# Altium schematic symbol library SamacSys.SchLib: 1281 symbols (part 2 of 13)

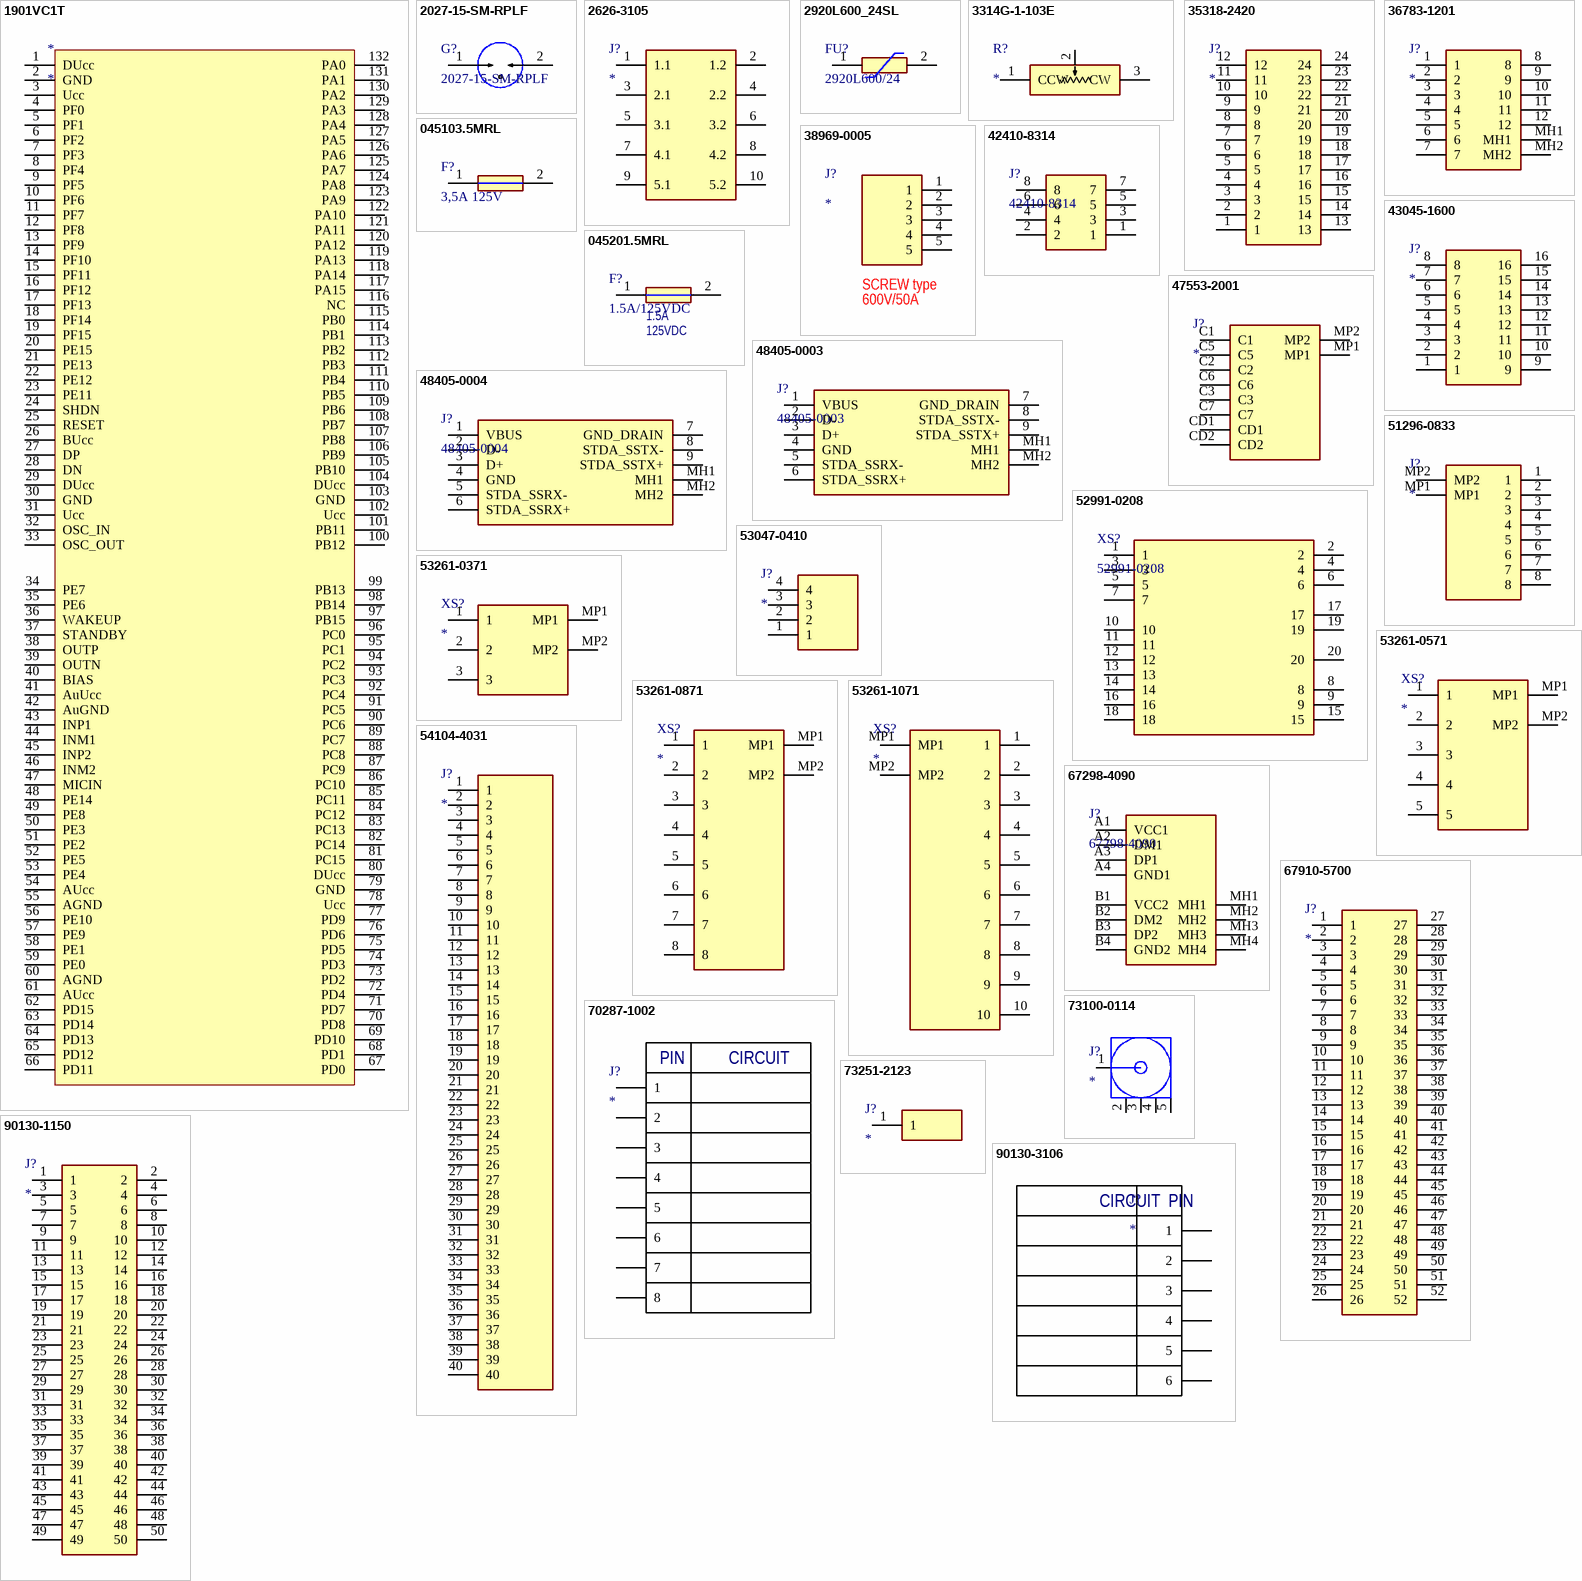
[diagram p4: symbols 1901VC1T to 90130-3106]

## 1901VC1T
designator *
footprint CQFP62P3375X3375X350-132M (CQFP, 132-Leads, Body 33,75x33,75mm, Pitch 0,63mm, IPC Low Density)
pins: 1 DUcc, 2 GND, 3 Ucc, 4 PF0, 5 PF1, 6 PF2, 7 PF3, 8 PF4, 9 PF5, 10 PF6, 11 PF7, 12 PF8, 13 PF9, 14 PF10, 15 PF11, 16 PF12, 17 PF13, 18 PF14, 19 PF15, 20 PE15, 21 PE13, 22 PE12, 23 PE11, 24 SHDN, 25 RESET, 26 BUcc, 27 DP, 28 DN, 29 DUcc, 30 GND, 31 Ucc, 32 OSC_IN, 33 OSC_OUT, 34 PE7, 35 PE6, 36 WAKEUP, 37 STANDBY, 38 OUTP, 39 OUTN, 40 BIAS, 41 AuUcc, 42 AuGND, 43 INP1, 44 INM1, 45 INP2, 46 INM2, 47 MICIN, 48 PE14, 49 PE8, 50 PE3, 51 PE2, 52 PE5, 53 PE4, 54 AUcc, 55 AGND, 56 PE10, 57 PE9, 58 PE1, 59 PE0, 60 AGND, 61 AUcc, 62 PD15, 63 PD14, 64 PD13, 65 PD12, 66 PD11, 67 PD0, 68 PD1, 69 PD10, 70 PD8, 71 PD7, 72 PD4, 73 PD2, 74 PD3, 75 PD5, 76 PD6, 77 PD9, 78 Ucc, 79 GND, 80 DUcc, 81 PC15, 82 PC14, 83 PC13, 84 PC12, 85 PC11, 86 PC10, 87 PC9, 88 PC8, 89 PC7, 90 PC6, 91 PC5, 92 PC4, 93 PC3, 94 PC2, 95 PC1, 96 PC0, 97 PB15, 98 PB14, 99 PB13, 100 PB12, 101 PB11, 102 Ucc, 103 GND, 104 DUcc, 105 PB10, 106 PB9, 107 PB8, 108 PB7, 109 PB6, 110 PB5, 111 PB4, 112 PB3, 113 PB2, 114 PB1, 115 PB0, 116 NC, 117 PA15, 118 PA14, 119 PA13, 120 PA12, 121 PA11, 122 PA10, 123 PA9, 124 PA8, 125 PA7, 126 PA6, 127 PA5, 128 PA4, 129 PA3, 130 PA2, 131 PA1, 132 PA0

## 2027-15-SM-RPLF
designator G?
GDT 150V 10KA 2 POLE SMD; Manufacturer_Name: Bourns; Manufacturer_Part_Number: 2003-07-SM-RPLF; Datasheet Link: https://www.arrow.com/en/products/2003-07-sm-rplf/bourns; Height: 3.7mm; Mouser Part Number: 652-2003-07-SM-RPLF; Mouser Price/Stock: https://www.mouser.co.uk/ProductDetail/Bourns/2003-07-SM-RPLF?qs=j%252B1pi9TdxUaYVLyv%2F6mAaA%3D%3D; Arrow Part Number: 2003-07-SM-RPLF; Arrow Price/Stock: https://www.arrow.com/en/products/2003-07-sm-rplf/bourns?region=nac
footprint 202707SMRPLF
pins: 1, 2

## 2626-3105
designator J?
PCB TERMINAL BLOCK 6 MM PIN SPAC; Manufacturer_Name: Wago; Manufacturer_Part_Number: 2626-3105; Datasheet Link: https://www.wago.com/2626-3105; Height: 24.2mm
footprint 26263105
pins: 1 1.1, 2 1.2, 3 2.1, 4 2.2, 5 3.1, 6 3.2, 7 4.1, 8 4.2, 9 5.1, 10 5.2

## 2920L600_24SL
designator FU?, comment 2920L600/24
PTC RESET FUSE 6.0A 24V 2920; Manufacturer_Name: LITTELFUSE; Manufacturer_Part_Number: 2920L600/24SL; Datasheet Link: https://www.mouser.fr/datasheet/2/240/littelfuse_ptc_low_rho_datasheet_pdf-1901322.pdf; Height: 1.2mm
footprint 2920L700SLPR (Footprint not found)
pins: 1, 2

## 3314G-1-103E
designator R?
TRIMMER 10K OHM 0.25W GW TOP ADJ; Manufacturer_Name: Bourns; Manufacturer_Part_Number: 3314G-1-103E; Datasheet Link: https://componentsearchengine.com/Datasheets/2/3314G-1-103E.pdf; Mouser Part Number: 652-3314G-1-103E; Mouser Price/Stock: https://www.mouser.co.uk/ProductDetail/Bourns/3314G-1-103E?qs=5DXzRwmrLHHE6mxfh4g4uw%3D%3D; Arrow Part Number: 3314G-1-103E; Arrow Price/Stock: https://www.arrow.com/en/products/3314g-1-103e/bourns?region=europe
footprint 3314G-1-102E
pins: 1 CCW, 2 WIPER, 3 CW

## 35318-2420
designator J?
CONN HEADER R/A 24POS 4.2MM; Manufacturer_Name: Molex; Manufacturer_Part_Number: 35318-2420; Datasheet Link: https://www.molex.com/pdm_docs/sd/353180420_sd.pdf; Height: 11mm; Mouser Part Number: 538-35318-2420; Mouser Price/Stock: https://www.mouser.co.uk/ProductDetail/Molex/35318-2420?qs=yk4OKw9K9iKh2zcL8vnGBQ%3D%3D
footprint 35318-24Y0_12
pins: 1, 2, 3, 4, 5, 6, 7, 8, 9, 10, 11, 12, 13, 14, 15, 16, 17, 18, 19, 20, 21, 22, 23, 24

## 36783-1201
designator J?
CONN HEADER R/A 12POS 3.2MM; Manufacturer_Name: Molex; Manufacturer_Part_Number: 36783-1201; Datasheet Link: https://www.molex.com/webdocs/datasheets/pdf/en-us/0367831201_PCB_HEADERS.pdf; Height: 26mm; Mouser Part Number: 538-36783-1201; Mouser Price/Stock: https://www.mouser.co.uk/ProductDetail/Molex/36783-1201?qs=OCbSoOldw5tiOFZFkbZSWg%3D%3D
footprint 367831201
pins: 1, 2, 3, 4, 5, 6, 7, 8, 9, 10, 11, 12, MH1, MH2

## 38969-0005
designator J?
CONN BARRIER STRIP 5CIRC 0.5"; Manufacturer_Name: Molex; Manufacturer_Part_Number: 38969-0005; Datasheet Link: https://www.molex.com/molex/products/part-detail/terminal_blocks/0389690005; Height: 22.6mm; Mouser Part Number: 538-38969-0005; Mouser Price/Stock: https://www.mouser.co.uk/ProductDetail/Molex/38969-0005?qs=PQuVvXbTLK53BA2hCkrDPQ%3D%3D
footprint 389690005
pins: 1, 2, 3, 4, 5
text: SCREW type; 600V/50A

## 42410-8314
designator J?
CONN MOD JACK 8P8C VERT UNSHLD; Manufacturer_Name: Molex; Datasheet Link: https://componentsearchengine.com/Datasheets/5/42410-8314.pdf; Height: 16.63mm; Manufacturer_Part_Number: 42410-8314; Mouser Part Number: 538-42410-8314; Mouser Price/Stock: https://www.mouser.co.uk/ProductDetail/Molex/42410-8314?qs=N%252Bmdi5el9QK7xOzFDC%252BCjg%3D%3D
footprint 424108314
pins: 1, 2, 3, 4, 5, 6, 7, 8

## 43045-1600
designator J?
CONN HEADER R/A 16POS 3MM; Manufacturer_Name: Molex; Manufacturer_Part_Number: 43045-1600; Datasheet Link: https://www.molex.com/pdm_docs/sd/430450200_sd.pdf; Height: 8.77mm; Mouser Part Number: 538-43045-1600; Mouser Price/Stock: https://www.mouser.co.uk/ProductDetail/Molex/43045-1600?qs=SeTnVz%252B%252BFGBdrqGVXFHXvQ%3D%3D
footprint 43045-16(00,01,02,10)
pins: 1, 2, 3, 4, 5, 6, 7, 8, 9, 10, 11, 12, 13, 14, 15, 16

## 045103.5MRL
designator F?, comment 3,5А 125V
FUSE BRD MNT 3.5A 125VAC/VDC SMD; Manufacturer_Name: LITTELFUSE; Manufacturer_Part_Number: 0451020.MRL; Datasheet Link: https://m.littelfuse.com/~/media/electronics/datasheets/fuses/littelfuse_fuse_451_453_datasheet.pdf.pdf; Height: 2.94mm; Mouser Part Number: 576-0451020.MRL; Mouser Price/Stock: https://www.mouser.co.uk/ProductDetail/Littelfuse/0451020.MRL?qs=ZaMXuU%252B6JZZbQqgd%2F3uvYw%3D%3D; Arrow Part Number: 0451020.MRL; Arrow Price/Stock: https://www.arrow.com/en/products/0451020.mrl/littelfuse?region=nac
footprint FUSC6127X294N
pins: 1, 2

## 045201.5MRL
designator F?, comment 1.5A/125VDC  Rated Current: 1.5А  Voltage: 125VDC
FUSE BRD MNT 1.5A 125VAC/VDC SMD; Manufacturer_Name: LITTELFUSE; Manufacturer_Part_Number: 045201.5MRL; Datasheet Link: https://componentsearchengine.com/Datasheets/2/045201.5MRL.pdf; Height: 2.69mm; Mouser Part Number: 576-045201.5MRL; Mouser Price/Stock: https://www.mouser.co.uk/ProductDetail/Littelfuse/045201.5MRL?qs=WtG364jHAdxFkoGkhC9sHA%3D%3D; Arrow Part Number: 045201.5MRL; Arrow Price/Stock: https://www.arrow.com/en/products/045201.5mrl/littelfuse?region=nac
footprint FUSC6127X269N
pins: 1, 2

## 47553-2001
designator J?
CONN SIM CARD R/A SMD; Manufacturer_Name: Molex; Manufacturer_Part_Number: 47553-2001; Datasheet Link: https://www.molex.com/pdm_docs/sd/475532001_sd.pdf; Height: 1.95mm; Mouser Part Number: 538-47553-2001; Mouser Price/Stock: https://www.mouser.co.uk/ProductDetail/Molex/47553-2001?qs=1uvhzzitxfi2svNKAQbATg%3D%3D; Arrow Part Number: 47553-2001; Arrow Price/Stock: https://www.arrow.com/en/products/47553-2001/molex?region=nac
footprint 475532001
pins: C1, C2, C3, C5, C6, C7, CD1, CD2, MP1, MP2

## 48405-0003
designator J?
CONN RCPT USB3.0 TYPEA 9POS R/A; Manufacturer_Name: Molex; Manufacturer_Part_Number: 0484050003; Datasheet Link: https://www.molex.com/pdm_docs/sd/484050003_sd.pdf; Height: 7.2mm; Mouser Part Number: N/A; Mouser Price/Stock: https://www.mouser.co.uk/ProductDetail/Molex/0484050003?qs=PBcRNPEHKsrJIFSus3iemQ%3D%3D; Arrow Part Number: 0484050003; Arrow Price/Stock: https://www.arrow.com/en/products/0484050003/molex?region=nac
footprint 0484050003
pins: 1 VBUS, 2 D-, 3 D+, 4 GND, 5 STDA_SSRX-, 6 STDA_SSRX+, 7 GND_DRAIN, 8 STDA_SSTX-, 9 STDA_SSTX+, MH1, MH2

## 48405-0004
designator J?
CONN RCPT USB3.0 TYPEA 9POS R/A; Manufacturer_Name: Molex; Datasheet Link: https://www.molex.com/pdm_docs/sd/484050004_sd.pdf; Height: 7.2mm; Manufacturer_Part_Number: 48405-0004; Mouser Part Number: 538-48405-0004; Mouser Price/Stock: https://www.mouser.co.uk/ProductDetail/Molex/48405-0004?qs=KpdAywxU013tn9yU6Oexaw%3D%3D
footprint 484050004
pins: 1 VBUS, 2 D-, 3 D+, 4 GND, 5 STDA_SSRX-, 6 STDA_SSRX+, 7 GND_DRAIN, 8 STDA_SSTX-, 9 STDA_SSTX+, MH1, MH2

## 51296-0833
designator J?
CONN FFC BOTTOM 8POS 0.5MM R/A; Manufacturer_Name: Molex; Manufacturer_Part_Number: 51296-0833; Datasheet Link: https://www.molex.com/pdm_docs/sd/512960833_sd.pdf; Height: 1.5mm; Mouser Part Number: 538-51296-0833; Mouser Price/Stock: https://www.mouser.co.uk/ProductDetail/Molex/51296-0833?qs=WUH%2FFLtHMl3%252BMyIyLnVEoQ%3D%3D
footprint 512960833
pins: 1, 2, 3, 4, 5, 6, 7, 8, MP1, MP2

## 52991-0208
designator XS?
CONN RCPT 20POS SMD GOLD; Manufacturer_Name: Molex; Datasheet Link: http://www.molex.com/webdocs/datasheets/pdf/en-us//0529910208_PCB_RECEPTACLES.pdf; Height: 2.47mm; Manufacturer_Part_Number: 52991-0208; Mouser Part Number: 538-52991-0208; Mouser Price/Stock: https://www.mouser.co.uk/ProductDetail/Molex/52991-0208?qs=KC2ywxza1krtfqlg7H04kw%3D%3D
footprint 529910208
pins: 1, 2, 3, 4, 5, 6, 7, 8, 9, 10, 11, 12, 13, 14, 15, 16, 17, 18, 19, 20

## 53047-0410
designator J?
Connector; Manufacturer_Name: Molex; Manufacturer_Part_Number: 53047-0410; Datasheet Link: https://www.molex.com/pdm_docs/sd/530470410_sd.pdf; Height: 4.4mm; Mouser Part Number: 538-53047-0410; Mouser Price/Stock: https://www.mouser.co.uk/ProductDetail/Molex/53047-0410?qs=DcEdecHHM4i8IPBxVAuJtg%3D%3D
footprint 530470410
pins: 1, 2, 3, 4

## 53261-0371
designator XS?
CONN HEADER SMD R/A 3POS 1.25MM; Manufacturer_Name: Molex; Manufacturer_Part_Number: 532610371; Datasheet Link: https://www.molex.com/pdm_docs/sd/532610271_sd.pdf; Height: 3.4mm
footprint 53261-0371 (Footprint not found)
pins: 1, 2, 3, MP1, MP2

## 53261-0571
designator XS?
CONN HEADER SMD R/A 5POS 1.25MM; Manufacturer_Name: Molex; Manufacturer_Part_Number: 53261-0571; Datasheet Link: https://www.molex.com/pdm_docs/sd/532610571_sd.pdf; Height: 3.4mm; Mouser Part Number: 538-53261-0571; Mouser Price/Stock: https://www.mouser.co.uk/ProductDetail/Molex/53261-0571?qs=Z4ettq%2Fvyk9tUNWvtq%2FUoA%3D%3D; Arrow Part Number: 53261-0571; Arrow Price/Stock: https://www.arrow.com/en/products/53261-0571/molex?utm_currency=USD&region=nac
footprint 53261-0571
pins: 1, 2, 3, 4, 5, MP1, MP2

## 53261-0871
designator XS?
CONN HEADER SMD R/A 8POS 1.25MM; Manufacturer_Name: Molex; Manufacturer_Part_Number: 53261-0871; Datasheet Link: http://www.molex.com/webdocs/datasheets/pdf/en-us/0532610871_PCB_HEADERS.pdf; Mouser Part Number: 538-53261-0871; Mouser Price/Stock: https://www.mouser.co.uk/ProductDetail/Molex/53261-0871?qs=%252B72YyncTwW%252BggfdCJ7Netw%3D%3D; Arrow Part Number: 53261-0871; Arrow Price/Stock: https://www.arrow.com/en/products/53261-0871/molex?region=nac
footprint 53261-0871
pins: 1, 2, 3, 4, 5, 6, 7, 8, MP1, MP2

## 53261-1071
designator XS?
CONN HEADER SMD R/A 10POS 1.25MM; Manufacturer_Name: Molex; Manufacturer_Part_Number: 53261-1071; Datasheet Link: https://www.molex.com/webdocs/datasheets/pdf/en-us/0532611071_PCB_HEADERS.pdf; Height: 3mm; Mouser Part Number: 538-53261-1071; Mouser Price/Stock: https://www.mouser.co.uk/ProductDetail/Molex/53261-1071?qs=%252B72YyncTwW%252Bzs3RwZTiukQ%3D%3D
footprint 53261-1071
pins: 1, 2, 3, 4, 5, 6, 7, 8, 9, 10, MP1, MP2

## 54104-4031
designator J?
CONN FFC FPC TOP 40POS 0.5MM R/A; Manufacturer_Name: Molex; Manufacturer_Part_Number: 54104-4031; Datasheet Link: http://www.molex.com/webdocs/datasheets/pdf/en-us//0541044031_FFC_FPC_CONNECTORS.pdf; Mouser Part Number: 538-54104-4031; Mouser Price/Stock: https://www.mouser.co.uk/ProductDetail/Molex/54104-4031?qs=OdNwOVlk5%2FgBUEuya%2FAfOQ%3D%3D
footprint 54104-4031
footprint 50A-40BS
pins: 1, 2, 3, 4, 5, 6, 7, 8, 9, 10, 11, 12, 13, 14, 15, 16, 17, 18, 19, 20, 21, 22, 23, 24, 25, 26, 27, 28, 29, 30, 31, 32, 33, 34, 35, 36, 37, 38, 39, 40

## 67298-4090
designator J?
CONN RCPT TYPEA STACKED 8POS R/A; Manufacturer_Name: Molex; Datasheet Link: https://www.molex.com/pdm_docs/sd/672984090_sd.pdf; Height: 15mm; Manufacturer_Part_Number: 67298-4090; Mouser Part Number: 538-67298-4090; Mouser Price/Stock: https://www.mouser.co.uk/ProductDetail/Molex/67298-4090?qs=Lu3apKW7jUgjgQ9KehYn5g%3D%3D
footprint 672984090 (Footprint not found)
pins: A1 VCC1, A2 DM1, A3 DP1, A4 GND1, B1 VCC2, B2 DM2, B3 DP2, B4 GND2, MH1, MH2, MH3, MH4

## 67910-5700
designator J?
CONN PCI EXP MIN FML 52POS 0.031; Manufacturer_Name: Molex; Manufacturer_Part_Number: 67910-5700; Datasheet Link: https://datasheet.datasheetarchive.com/originals/distributors/Datasheets_SAMA/50bcc70a7102e69944e39fc33a0bf013.pdf; Mouser Part Number: 538-67910-5700; Mouser Price/Stock: https://www.mouser.co.uk/ProductDetail/Molex/67910-5700?qs=cTNRJjk9LReY0n8B358FZQ%3D%3D
footprint 67910-5700 (Footprint not found)
pins: 1, 2, 3, 4, 5, 6, 7, 8, 9, 10, 11, 12, 13, 14, 15, 16, 17, 18, 19, 20, 21, 22, 23, 24, 25, 26, 27, 28, 29, 30, 31, 32, 33, 34, 35, 36, 37, 38, 39, 40, 41, 42, 43, 44, 45, 46, 47, 48, 49, 50, 51, 52

## 70287-1002
designator J?
CONN HEADER VERT 8POS 2.54MM; Manufacturer_Name: Molex; Manufacturer_Part_Number: 70287-1002; Datasheet Link: https://www.molex.com/pdm_docs/sd/702871002_sd.pdf; Height: 8.64mm; Mouser Part Number: 538-70287-1002; Mouser Price/Stock: https://www.mouser.co.uk/ProductDetail/Molex/70287-1002?qs=kYQSPAH4sJw5rDll8Nz8MA%3D%3D
footprint 702871002
pins: 1, 2, 3, 4, 5, 6, 7, 8
text: PIN; CIRCUIT

## 73100-0114
designator J?
CONN SMA RCPT R/A 50 OHM PCB; Manufacturer_Name: Molex; Manufacturer_Part_Number: 73100-0114; Datasheet Link: https://www.molex.com/pdm_docs/sd/731000114_sd.pdf; Height: 9.57mm; Mouser Part Number: 538-73100-0114; Mouser Price/Stock: https://www.mouser.co.uk/ProductDetail/Molex/73100-0114?qs=ohtcwxb5zIvxHEM9IPQ5cQ%3D%3D; Arrow Part Number: 73100-0114; Arrow Price/Stock: https://www.arrow.com/en/products/73100-0114/molex?region=nac
footprint 731000114
pins: 1, 2, 3, 4, 5

## 73251-2123
designator J?
SMA JACK EDGE MNT 50 OHM .062; Manufacturer_Name: Molex; Manufacturer_Part_Number: 73251-2123; Mouser Part Number: 538-73251-2123; Mouser Price/Stock: https://www.mouser.co.uk/ProductDetail/Molex/73251-2123?qs=KpdAywxU010iaT6kySWldg%3D%3D
footprint 73251-2123
pins: 1

## 90130-1150
designator J?
CONN HEADER VERT 50POS 2.54MM; Manufacturer_Name: Molex; Manufacturer_Part_Number: 90130-1150; Datasheet Link: https://www.molex.com/pdm_docs/sd/901301106_sd.pdf; Height: 11.1mm; Mouser Part Number: 538-90130-1150; Mouser Price/Stock: https://www.mouser.co.uk/ProductDetail/Molex/90130-1150/?qs=kEwmkoUtv7SvBtEyZ4Ss0g%3D%3D
footprint SHDR50W65P254_2X25_6584X975X1110P
pins: 1, 2, 3, 4, 5, 6, 7, 8, 9, 10, 11, 12, 13, 14, 15, 16, 17, 18, 19, 20, 21, 22, 23, 24, 25, 26, 27, 28, 29, 30, 31, 32, 33, 34, 35, 36, 37, 38, 39, 40, 41, 42, 43, 44, 45, 46, 47, 48, 49, 50

## 90130-3106
designator J?
CONN HEADER R/A 6POS 2.54MM; Manufacturer_Name: Molex; Manufacturer_Part_Number: 90130-3106; Datasheet Link: https://www.molex.com/pdm_docs/sd/901303106_sd.pdf; Height: 11.1mm; Mouser Part Number: 538-90130-3106; Mouser Price/Stock: https://www.mouser.co.uk/ProductDetail/Molex/90130-3106?qs=5I9OOWfkcOX%252B%252B5MmTbdl3A%3D%3D
footprint SHDR6W65P254_2X3_996X975X1110P
pins: 1, 2, 3, 4, 5, 6
text: CIRCUIT; PIN

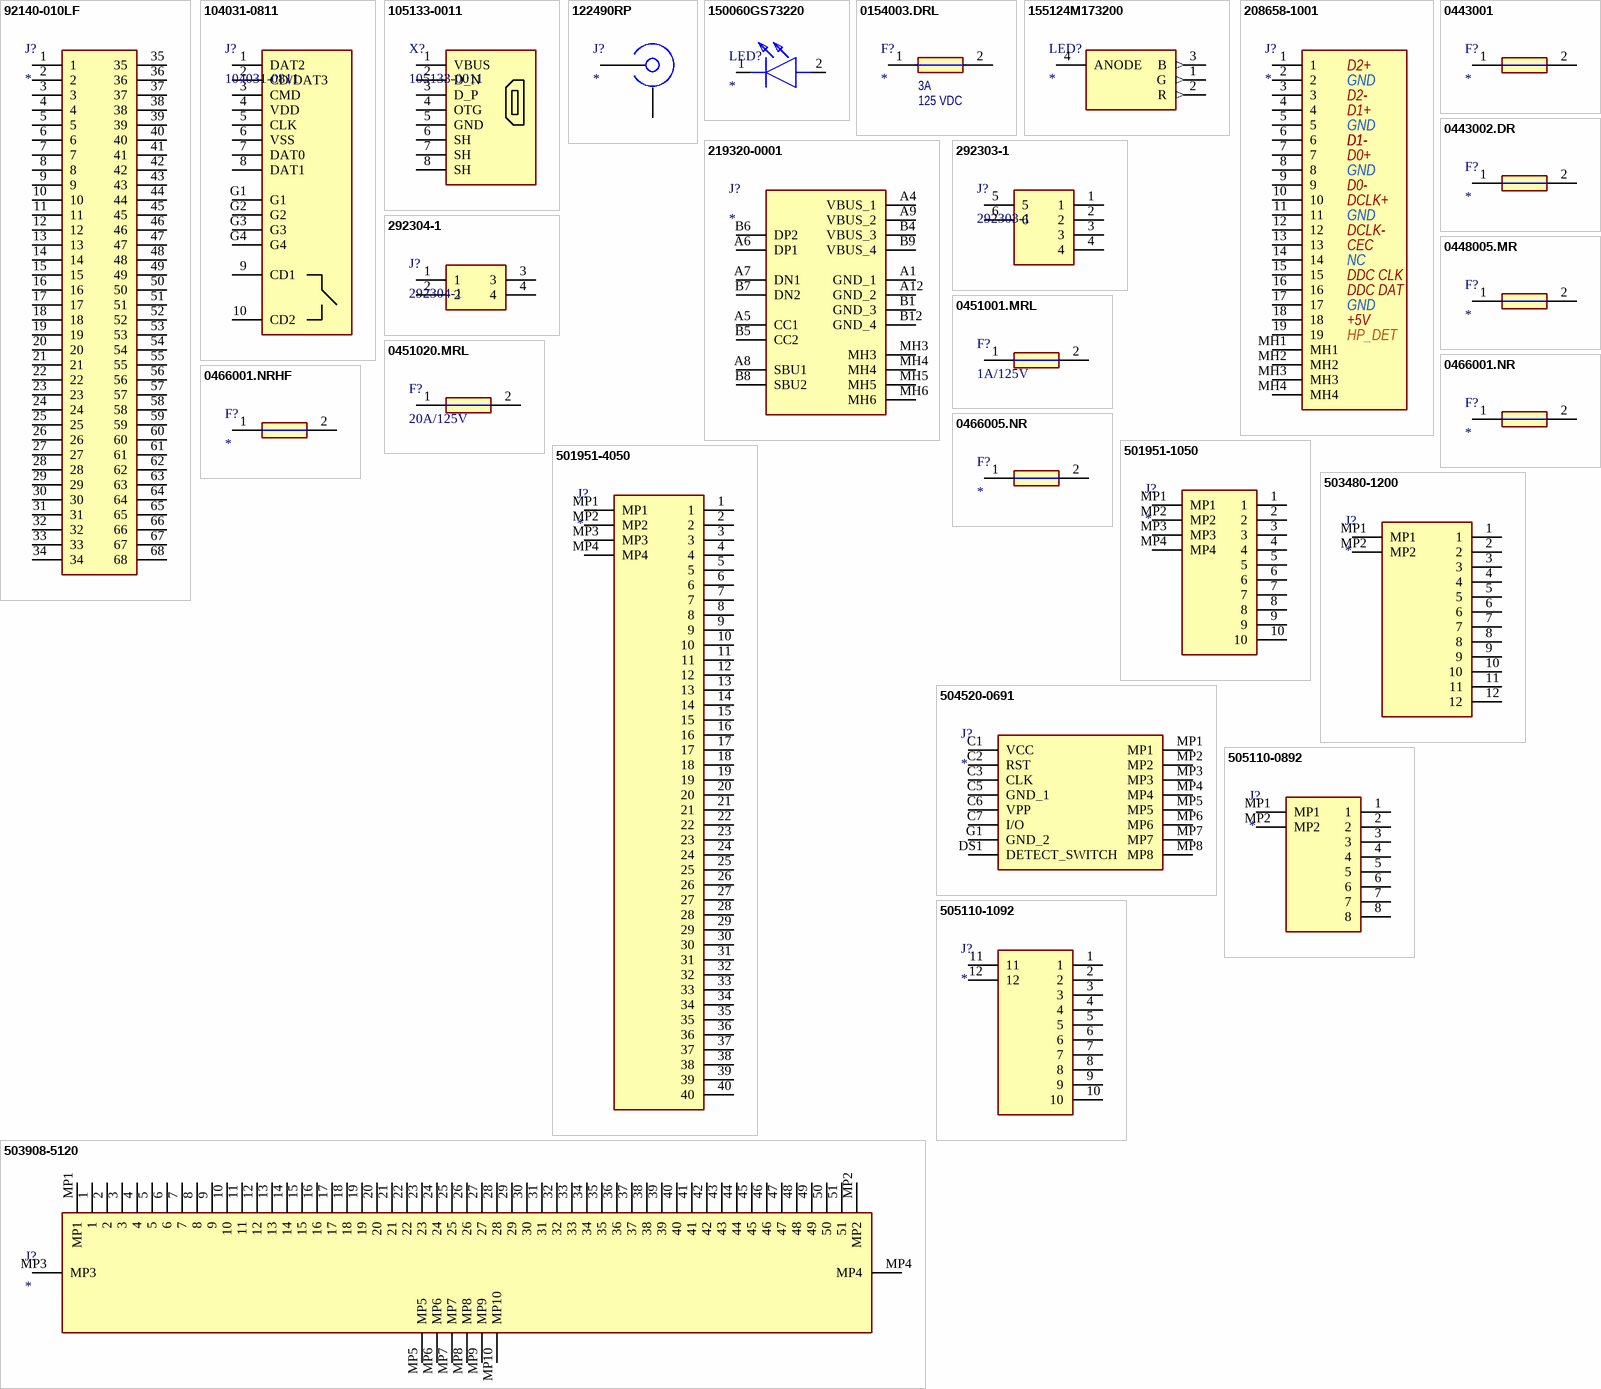
[diagram p5: symbols 92140-010LF to 505110-1092]

## 92140-010LF
designator J?
CONN PCMCIA CARD R/A PCB; Manufacturer_Name: Amphenol Communications Solutions; Manufacturer_Part_Number: 92140-010LF; Datasheet Link: https://cdn.amphenol-cs.com/media/wysiwyg/files/documentation/datasheet/inputoutput/io_pcmcia_shortbody.pdf; Height: 5.8mm; Mouser Part Number: 649-92140-010LF; Mouser Price/Stock: https://www.mouser.co.uk/ProductDetail/Amphenol-FCI/92140-010LF?qs=S7cSk136QBGr8%252BBNYNafTg%3D%3D; Arrow Part Number: 92140-010LF; Arrow Price/Stock: https://www.arrow.com/en/products/92140-010lf/amphenol-fci
footprint 92140010LF (Footprint not found)
pins: 1, 2, 3, 4, 5, 6, 7, 8, 9, 10, 11, 12, 13, 14, 15, 16, 17, 18, 19, 20, 21, 22, 23, 24, 25, 26, 27, 28, 29, 30, 31, 32, 33, 34, 35, 36, 37, 38, 39, 40, 41, 42, 43, 44, 45, 46, 47, 48, 49, 50, 51, 52, 53, 54, 55, 56, 57, 58, 59, 60, 61, 62, 63, 64, 65, 66, 67, 68

## 104031-0811
designator J?
CONN MICRO SD CARD R/A SMD; Manufacturer_Name: Molex; Datasheet Link: http://www.molex.com/webdocs/datasheets/pdf/en-us/1040310811_MEMORY_CARD_SOCKET.pdf; Manufacturer_Part_Number: 104031-0811; Mouser Part Number: 538-104031-0811; Mouser Price/Stock: https://www.mouser.co.uk/ProductDetail/Molex/104031-0811?qs=udsGRKD4nA3Tvy7wqky%252BuA%3D%3D
footprint 1040310811 (Footprint not found)
pins: 1 DAT2, 2 CD/DAT3, 3 CMD, 4 VDD, 5 CLK, 6 VSS, 7 DAT0, 8 DAT1, 9 CD1, 10 CD2, G1, G2, G3, G4

## 105133-0011
designator X?
CONN RCPT USB2.0 MICRO B SMD; Manufacturer_Name: MOLEX; Datasheet Link: https://www.molex.com/content/dam/molex/molex-dot-com/products/automated/en-us/salesdrawingpdf/105/105133/1051330011_sd.pdf; Manufacturer_Part_Number: 105133-0011
footprint 105133-0011 (Micro USB Vertical)
pins: 1 VBUS, 2 D_N, 3 D_P, 4 OTG, 5 GND, 6 SH, 7 SH, 8 SH

## 122490RP
designator J?
CONN RP-TNC JACK R/A 50 OHM PCB; Manufacturer_Name: Amphenol; Manufacturer_Part_Number: 122490RP; Datasheet Link: https://componentsearchengine.com/Datasheets/1/122490RP.pdf; Height: 15mm; Mouser Part Number: 523-122490RP
footprint 122490RP
pins: 1, GND

## 150060GS73220
designator LED?
LED GREEN CLEAR 0603 SMD; Manufacturer_Name: Wurth Elektronik; Manufacturer_Part_Number: 150060GS73220; Datasheet Link: https://katalog.we-online.de/led/datasheet/150060GS73220.pdf; Height: 0.3mm; Mouser Part Number: 710-150060GS73220; Mouser Price/Stock: https://www.mouser.co.uk/ProductDetail/Wurth-Elektronik/150060GS73220?qs=fAHHVMwC%252Bbg2CbqeB%2FGQdg%3D%3D
footprint 150060GS73220
pins: 1 K, 2 A

## 0154003.DRL
designator F?  Rated Current: 3A  Voltage: 125 VDC
FUSE BRD MNT 3A 125VAC/VDC 2SMD; Manufacturer_Name: LITTELFUSE; Manufacturer_Part_Number: 0154003.DRL; Datasheet Link: https://www.littelfuse.com/~/media/electronics/datasheets/fuses/littelfuse_fuse_154_154t_154l_154tl_datasheet.pdf.pdf; Height: 3.81mm; Mouser Part Number: 576-0154003.DRL; Mouser Price/Stock: https://www.mouser.co.uk/ProductDetail/Littelfuse/0154003.DRL?qs=tQeA2zcAjvUcS%2FalRyEvsA%3D%3D; Arrow Part Number: 0154003.DRL; Arrow Price/Stock: https://www.arrow.com/en/products/0154003.drl/littelfuse?region=nac
footprint 0154003DRL
pins: 1, 2

## 155124M173200
designator LED?
LED RGB CLEAR 1204 SMD R/A; Manufacturer_Name: Wurth Elektronik; Manufacturer_Part_Number: 155124M173200; Datasheet Link: https://www.mouser.com/ds/2/445/155124M173200-1113601.pdf; Mouser Part Number: 710-155124M173200; Mouser Price/Stock: https://www.mouser.co.uk/ProductDetail/Wurth-Elektronik/155124M173200?qs=5aG0NVq1C4xPhoUU07x4gQ%3D%3D
footprint 155124M173200
pins: 1 G (out), 2 R (out), 3 B (out), 4 ANODE (power)

## 208658-1001
designator J?
CONN RCPT HDMI V2.1 19POS SMD RA; Manufacturer_Name: Molex; Manufacturer_Part_Number: 208658-1001; Datasheet Link: https://componentsearchengine.com/Datasheets/2/208658-1001.pdf; Height: 6.19mm; Mouser Part Number: 538-208658-1001; Mouser Price/Stock: https://www.mouser.co.uk/ProductDetail/Molex/208658-1001?qs=B6kkDfuK7%2FCPiHHdkGL5VQ%3D%3D
footprint 2086581001
pins: 1, 2, 3, 4, 5, 6, 7, 8, 9, 10, 11, 12, 13, 14, 15, 16, 17, 18, 19, MH1, MH2, MH3, MH4
text: D2+; GND; D2-; D1+; D1-; D0+; D0-; DCLK+; DCLK-; CEC; NC; DDC CLK; DDC DAT; +5V; HP_DET

## 219320-0001
designator J?
16P HEIGHT 8.8MM TYPE C; Manufacturer_Name: Molex; Manufacturer_Part_Number: 219320-0001; Datasheet Link: https://www.molex.com/content/dam/molex/molex-dot-com/products/automated/en-us/salesdrawingpdf/219/219320/2193200001_sd.pdf?inline; Height: 9.05mm; Mouser Part Number: 538-219320-0001; Mouser Price/Stock: https://www.mouser.co.uk/ProductDetail/Molex/219320-0001?qs=rQFj71Wb1eXha8qVBIXu3A%3D%3D
footprint 2193200001 (Footprint not found)
pins: A1 GND_1, A4 VBUS_1, A5 CC1, A6 DP1, A7 DN1, A8 SBU1, A9 VBUS_2, A12 GND_2, B1 GND_3, B4 VBUS_3, B5 CC2, B6 DP2, B7 DN2, B8 SBU2, B9 VBUS_4, B12 GND_4, MH3, MH4, MH5, MH6

## 292303-1
designator J?
CONN RCPT USB2.0 TYPEA 4POS R/A; Manufacturer_Name: TE Connectivity; Datasheet Link: http://docs-asia.electrocomponents.com/webdocs/06d0/0900766b806d08c4.pdf; Manufacturer_Part_Number: 292303-1; Mouser Part Number: 571-292303-1; Mouser Price/Stock: https://www.mouser.co.uk/ProductDetail/TE-Connectivity/292303-1?qs=G%2F5vCLrg9vx2OsUPTgR%2F%252BQ%3D%3D; Arrow Part Number: 292303-1; Arrow Price/Stock: https://www.arrow.com/en/products/292303-1/te-connectivity?region=nac
footprint TECONN-4POS-USB
pins: 1, 2, 3, 4, 5, 6

## 292304-1
designator J?
CONN RCPT USB2.0 TYPEB 4POS R/A; Manufacturer_Name: TE Connectivity; Datasheet Link: https://www.te.com/commerce/DocumentDelivery/DDEController?Action=srchrtrv&DocNm=7-1773442-0&DocType=Data+Sheet&DocLang=English&PartCntxt=292304-1&DocFormat=pdf; Manufacturer_Part_Number: 292304-1; Mouser Part Number: 571-292304-1; Mouser Price/Stock: https://www.mouser.co.uk/ProductDetail/TE-Connectivity/292304-1?qs=G%2F5vCLrg9vwiXeMJMHNpsA%3D%3D; Arrow Part Number: 292304-1; Arrow Price/Stock: https://www.arrow.com/en/products/292304-1/te-connectivity?region=europe
footprint 292304
pins: 1, 2, 3, 4

## 0443001
designator F?
Fuse, 1A, 250V; Manufacturer_Name: LITTELFUSE; Manufacturer_Part_Number: 0443001; Datasheet Link: https://www.littelfuse.com/~/media/electronics/datasheets/fuses/littelfuse_fuse_443_datasheet.pdf.pdf; Height: 3.05mm
footprint 0443500DR
pins: 1, 2

## 0443002.DR
designator F?
FUSE BOARD MOUNT 2A 250VAC 2SMD; Manufacturer_Name: LITTELFUSE; Manufacturer_Part_Number: 0443002.DR; Datasheet Link: https://www.littelfuse.com/~/media/electronics/datasheets/fuses/littelfuse_fuse_443_datasheet.pdf.pdf; Height: 3.05mm; Mouser Part Number: 576-0443002.DR; Mouser Price/Stock: https://www.mouser.co.uk/ProductDetail/Littelfuse/0443002.DR?qs=n5MbhIql%252BRm1%252BVZyNPmdAQ%3D%3D; Arrow Part Number: 0443002.DR; Arrow Price/Stock: https://www.arrow.com/en/products/0443002.dr/littelfuse?region=europe
footprint 0443500DR
pins: 1, 2

## 0448005.MR
designator F?
FUSE BRD MNT 5A 125VAC/VDC 2SMD; Manufacturer_Name: LITTELFUSE; Manufacturer_Part_Number: 0448005.MR; Datasheet Link: https://www.littelfuse.com/~/media/electronics/datasheets/fuses/littelfuse_fuse_448_datasheet.pdf.pdf; Height: 2.94mm; Mouser Part Number: 576-0448005.MR; Mouser Price/Stock: http://www.mouser.com/Search/ProductDetail.aspx?qs=zLq6hPBL7g7rOZQEM1wS4Q%3d%3d
footprint FUSC6127X294N
pins: 1, 2

## 0451001.MRL
designator F?, comment 1A/125V
FUSE BRD MNT 1A 125VAC/VDC 2SMD; Manufacturer_Name: LITTELFUSE; Manufacturer_Part_Number: 0451001.MRL; Datasheet Link: http://www.farnell.com/datasheets/1851807.pdf; Height: 2.94mm; Mouser Part Number: 576-0451001.MRL; Mouser Price/Stock: https://www.mouser.co.uk/ProductDetail/Littelfuse/0451001.MRL?qs=bpnLQM2ZShx47p41NnV6fQ%3D%3D; Arrow Part Number: 0451001.MRL; Arrow Price/Stock: https://www.arrow.com/en/products/0451001.mrl/littelfuse?region=europe
footprint FUSC6127X294N
pins: 1, 2

## 0451020.MRL
designator F?, comment 20A/125V
FUSE BRD MNT 20A 65VAC 65VDC SMD; Manufacturer_Name: LITTELFUSE; Manufacturer_Part_Number: 0451020.MRL; Datasheet Link: https://m.littelfuse.com/~/media/electronics/datasheets/fuses/littelfuse_fuse_451_453_datasheet.pdf.pdf; Height: 2.94mm; Mouser Part Number: 576-0451020.MRL; Mouser Price/Stock: https://www.mouser.co.uk/ProductDetail/Littelfuse/0451020.MRL?qs=ZaMXuU%252B6JZZbQqgd%2F3uvYw%3D%3D; Arrow Part Number: 0451020.MRL; Arrow Price/Stock: https://www.arrow.com/en/products/0451020.mrl/littelfuse?region=nac
footprint FUSC6127X294N
pins: 1, 2

## 0466001.NR
designator F?
FUSE BRD MNT 1A 63VAC 63VDC 1206; Manufacturer_Name: LITTELFUSE; Manufacturer_Part_Number: 0466001.NR; Datasheet Link: https://www.littelfuse.com/assetdocs/littelfuse_fuse_466_datasheet?assetguid=dbe9bcd7-6072-4adf-bf5b-d33e52a6b90f; Height: 0.66mm; Mouser Part Number: 576-0466001.NR; Mouser Price/Stock: https://www.mouser.co.uk/ProductDetail/Littelfuse/0466001NR?qs=ar9f0rk5DXDy6tpNfF8WnQ%3D%3D; Arrow Part Number: 0466001.NR; Arrow Price/Stock: https://www.arrow.com/en/products/0466001.nr/littelfuse?region=nac
footprint FUSC3215X66N
pins: 1, 2

## 0466001.NRHF
designator F?
FUSE BRD MNT 1A 63VAC 63VDC 1206; Manufacturer_Name: LITTELFUSE; Manufacturer_Part_Number: 0466001.NRHF; Datasheet Link: http://www.mouser.com/datasheet/2/240/Littelfuse_Fuse_466_Datasheet.pdf-1317335.pdf; Height: 0.66mm; Mouser Part Number: 576-0466001.NRHF; Mouser Price/Stock: https://www.mouser.co.uk/ProductDetail/Littelfuse/0466001.NRHF?qs=n5MbhIql%252BRl7ALFy%2FbHisA%3D%3D; Arrow Part Number: 0466001.NRHF; Arrow Price/Stock: https://www.arrow.com/en/products/0466001.nrhf/littelfuse?region=europe
footprint FUSC3215X66N
pins: 1, 2

## 0466005.NR
designator F?
FUSE BRD MNT 5A 32VAC 32VDC 1206; Manufacturer_Name: LITTELFUSE; Manufacturer_Part_Number: 0466005.NR; Datasheet Link: https://www.littelfuse.com/media?resourcetype=datasheets&itemid=966637aa-91de-4b65-a01a-92abe8a25ef2&filename=littelfuse-fuse-466-datasheet; Height: 0.66mm; Mouser Part Number: 576-0466005.NR; Mouser Price/Stock: https://www.mouser.co.uk/ProductDetail/Littelfuse/0466005.NR?qs=qI%252BDxnNls197U4L6rX1UTw%3D%3D
footprint FUSC3215X66N
pins: 1, 2

## 501951-1050
designator J?
CONN FFC FPC VERT 10POS 0.5MM RA; Manufacturer_Name: Molex; Manufacturer_Part_Number: 505110-1092; Datasheet Link: https://www.molex.com/webdocs/datasheets/pdf/en-us/5051101092_FFC_FPC_CONNECTORS.pdf; Height: 0mm; Mouser Part Number: 538-505110-1092; Mouser Price/Stock: https://www.mouser.co.uk/ProductDetail/Molex/505110-1092?qs=BA62vJVifGrjJfo6A8tlOw%3D%3D; Arrow Part Number: 505110-1092; Arrow Price/Stock: https://www.arrow.com/en/products/505110-1092/molex
footprint 5019511050
pins: 1, 2, 3, 4, 5, 6, 7, 8, 9, 10, MP1, MP2, MP3, MP4

## 501951-4050
designator J?
0.5 FPC HSG ASSY EASYONST40CKTEM; Manufacturer_Name: Molex; Manufacturer_Part_Number: 501951-1050; Datasheet Link: https://www.molex.com/pdm_docs/sd/5051104091_sd.pdf; Height: 2.1mm; Mouser Part Number: 538-505110-4091; Mouser Price/Stock: https://www.mouser.co.uk/ProductDetail/Molex/505110-4091?qs=fSIr1QPo%2F%2FT95dUq4Gl2OA%3D%3D
footprint 5019514050
pins: 1, 2, 3, 4, 5, 6, 7, 8, 9, 10, 11, 12, 13, 14, 15, 16, 17, 18, 19, 20, 21, 22, 23, 24, 25, 26, 27, 28, 29, 30, 31, 32, 33, 34, 35, 36, 37, 38, 39, 40, MP1, MP2, MP3, MP4

## 503480-1200
designator J?
CONN FFC FPC 12POS 0.5MM R/A; Manufacturer_Name: Molex; Manufacturer_Part_Number: 503480-1200; Datasheet Link: https://datasheet.datasheetarchive.com/originals/distributors/Datasheets_SAMA/65e35df525de5b425777c2b4324b65df.pdf; Height: 1.3mm; Mouser Part Number: 538-503480-1200; Mouser Price/Stock: https://www.mouser.co.uk/ProductDetail/Molex/503480-1200?qs=bodV9ulq6Gw8h%2FV8uzKDbQ%3D%3D
footprint 5034801200
pins: 1, 2, 3, 4, 5, 6, 7, 8, 9, 10, 11, 12, MP1, MP2

## 503908-5120
designator J?
CONN FFC BOTTOM 51POS 0.5MM R/A; Manufacturer_Name: Molex; Manufacturer_Part_Number: 503908-5120; Datasheet Link: https://www.molex.com/pdm_docs/sd/5039085120_sd.pdf; Height: 3.9mm; Mouser Part Number: 538-503908-5120; Mouser Price/Stock: https://www.mouser.co.uk/ProductDetail/Molex/503908-5120?qs=byeeYqUIh0PT3eD7D43o%252BQ%3D%3D
footprint 5039085120
pins: 1, 2, 3, 4, 5, 6, 7, 8, 9, 10, 11, 12, 13, 14, 15, 16, 17, 18, 19, 20, 21, 22, 23, 24, 25, 26, 27, 28, 29, 30, 31, 32, 33, 34, 35, 36, 37, 38, 39, 40, 41, 42, 43, 44, 45, 46, 47, 48, 49, 50, 51, MP1, MP2, MP3, MP4, MP5, MP6, MP7, MP8, MP9, MP10

## 504520-0691
designator J?
CONN NANO SIM CARD R/A SMD; Manufacturer_Name: Molex; Manufacturer_Part_Number: 504520-0691; Datasheet Link: https://www.molex.com/pdm_docs/sd/5045200691_sd.pdf; Height: 1.3mm; Mouser Part Number: 538-504520-0691; Mouser Price/Stock: https://www.mouser.co.uk/ProductDetail/Molex/504520-0691?qs=lCv1ok0wUF%252BLUub3rxam6Q%3D%3D
footprint 5045200691
pins: C1 VCC, C2 RST, C3 CLK, C5 GND_1, C6 VPP, C7 I/O, DS1 DETECT_SWITCH, G1 GND_2, MP1, MP2, MP3, MP4, MP5, MP6, MP7, MP8

## 505110-0892
designator J?
CONN FFC BOTTOM 8POS 0.5MM R/A; Manufacturer_Name: Molex; Manufacturer_Part_Number: 505110-0892; Datasheet Link: https://www.molex.com/pdm_docs/sd/5051100892_sd.pdf; Height: 2.1mm; Mouser Part Number: 538-505110-0892; Mouser Price/Stock: https://www.mouser.co.uk/ProductDetail/Molex/505110-0892?qs=BA62vJVifGpbhIkA97B4%2Fg%3D%3D; Arrow Part Number: 505110-0892; Arrow Price/Stock: https://www.arrow.com/en/products/505110-0892/molex
footprint 5051100892
pins: 1, 2, 3, 4, 5, 6, 7, 8, MP1, MP2

## 505110-1092
designator J?
CONN FFC BOTTOM 10POS 0.5MM R/A; Manufacturer_Name: Molex; Manufacturer_Part_Number: 505110-1092; Datasheet Link: https://www.molex.com/webdocs/datasheets/pdf/en-us/5051101092_FFC_FPC_CONNECTORS.pdf; Height: 0mm; Mouser Part Number: 538-505110-1092; Mouser Price/Stock: https://www.mouser.co.uk/ProductDetail/Molex/505110-1092?qs=BA62vJVifGrjJfo6A8tlOw%3D%3D; Arrow Part Number: 505110-1092; Arrow Price/Stock: https://www.arrow.com/en/products/505110-1092/molex
footprint 5051101092
pins: 1, 2, 3, 4, 5, 6, 7, 8, 9, 10, 11, 12

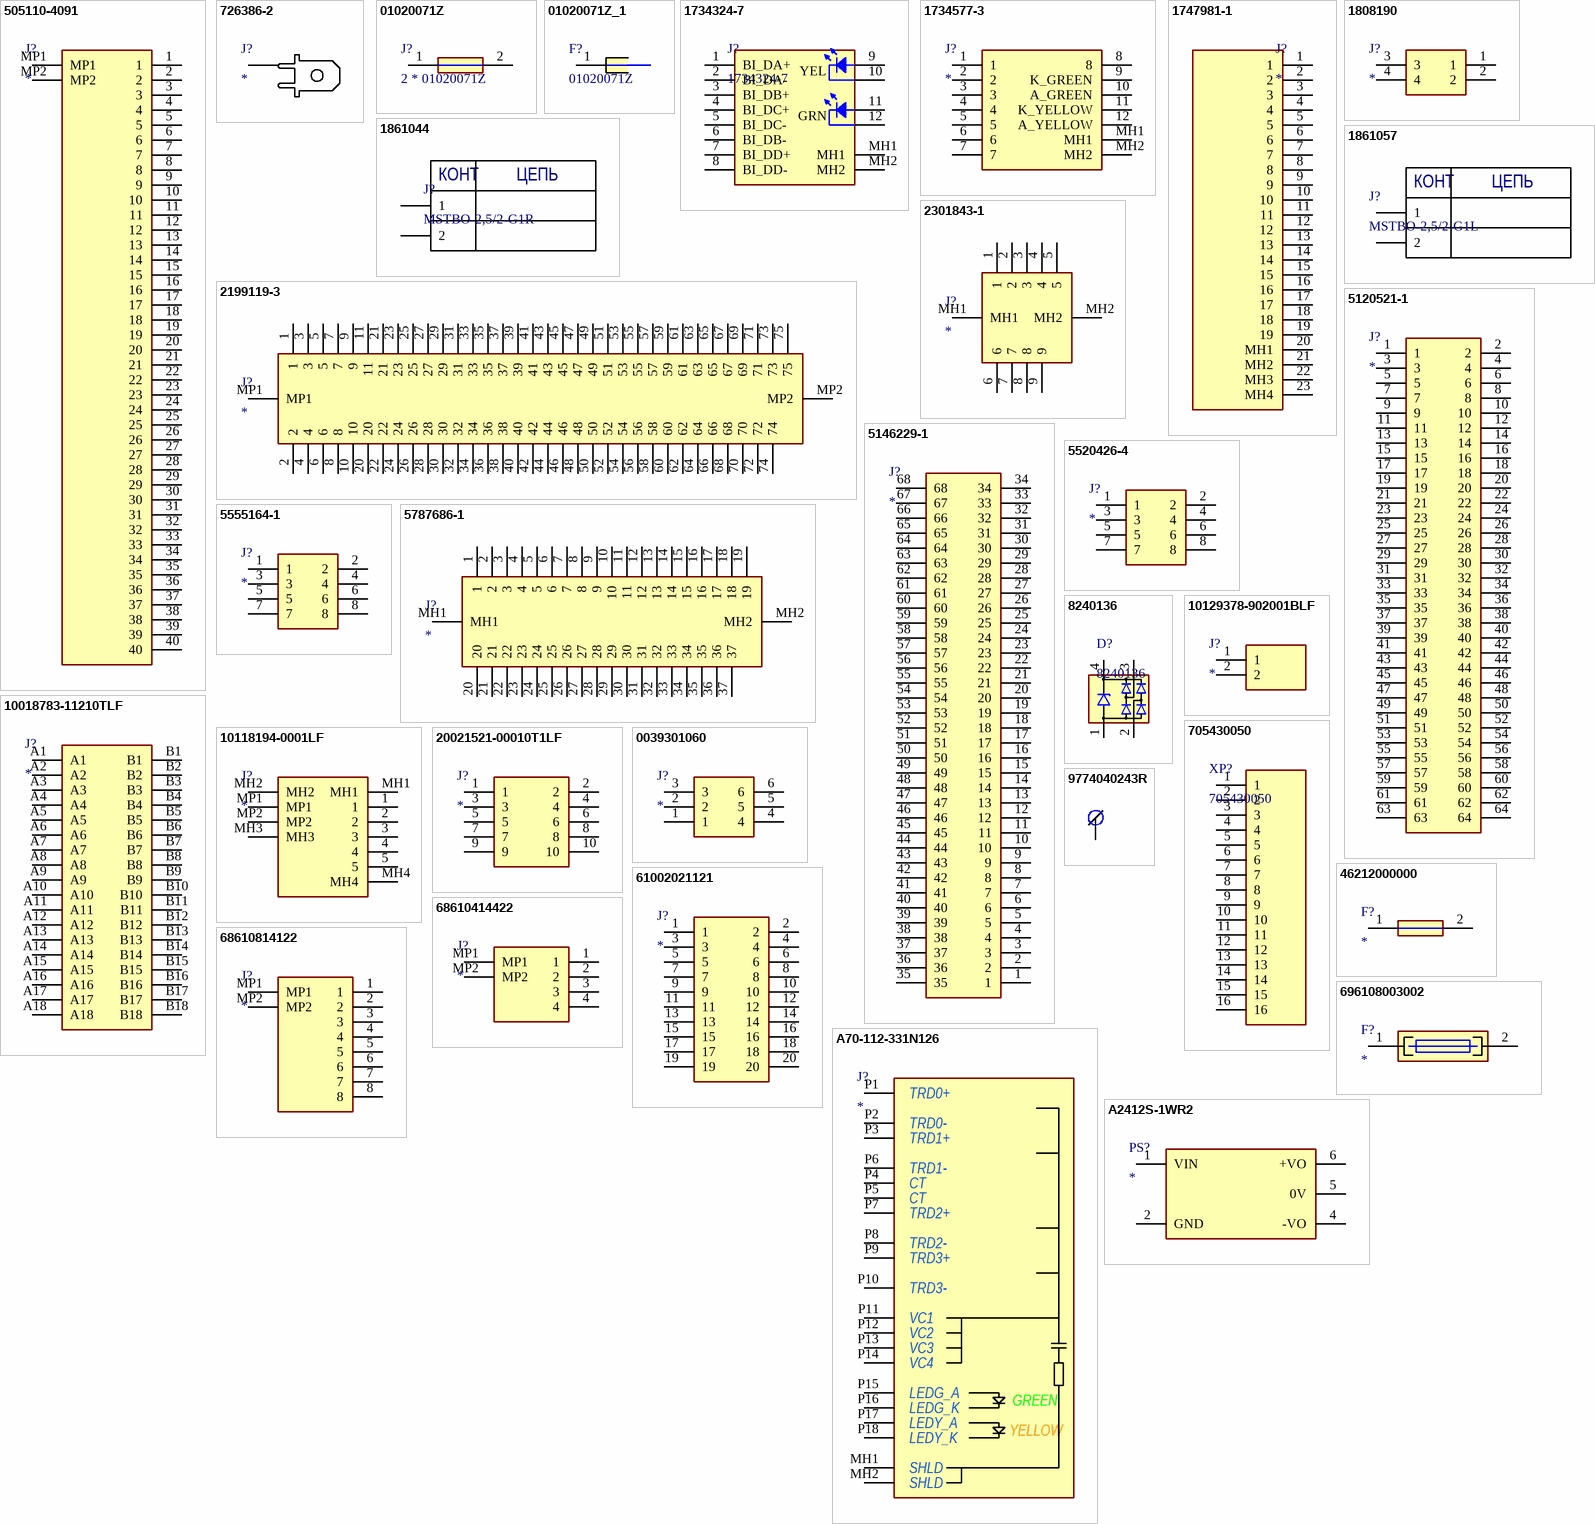
[diagram p6: symbols 505110-4091 to A2412S-1WR2]

## 505110-4091
designator J?
CONN FFC BOTTOM 40POS 0.5MM R/A; Manufacturer_Name: Molex; Manufacturer_Part_Number: 505110-4091; Datasheet Link: https://www.molex.com/pdm_docs/sd/5051104091_sd.pdf; Height: 2.1mm; Mouser Part Number: 538-505110-4091; Mouser Price/Stock: https://www.mouser.co.uk/ProductDetail/Molex/505110-4091?qs=fSIr1QPo%2F%2FT95dUq4Gl2OA%3D%3D
footprint 5051104091
pins: 1, 2, 3, 4, 5, 6, 7, 8, 9, 10, 11, 12, 13, 14, 15, 16, 17, 18, 19, 20, 21, 22, 23, 24, 25, 26, 27, 28, 29, 30, 31, 32, 33, 34, 35, 36, 37, 38, 39, 40, MP1, MP2

## 726386-2
designator J?
CONN QC TAB 0.250 SOLDER; Manufacturer: TE Connectivity; Part_Number: 726386-2; Manufacturer_1: KLS electronic co ltd; Part_Number_1: KLS8-01128; Datasheet Link: http://www.te.com/commerce/DocumentDelivery/DDEController?Action=showdoc&DocId=Customer+Drawing%7F726386%7FG%7Fpdf%7FEnglish%7FENG_CD_726386_G.pdf%7F1-726386-2; Mouser Price/Stock: https://www.mouser.co.uk/ProductDetail/TE-Connectivity-AMP/726386-2?qs=sd1rtLGwt4569WB7PEOdPA%3D%3D; Arrow Part Number: 726386-2; Arrow Price/Stock: https://www.arrow.com/en/products/726386-2/te-connectivity?utm_currency=USD&region=europe
footprint 726386-2; pin to pad 1>1+2
pins: 1

## 01020071Z
designator J?, comment 2 * 01020071Z
FUSE CLIP CARTRIDGE 250V 15A PCB; Manufacturer_Name: LITTELFUSE; Datasheet Link: http://www.littelfuse.com/~/media/electronics/datasheets/fuse_clips/littelfuse_fuse_clip_102_122_datasheet.pdf.pdf; Manufacturer_Part_Number: 01020071Z; Mouser Part Number: 576-01020071Z; Mouser Price/Stock: https://www.mouser.co.uk/ProductDetail/Littelfuse/01020071Z?qs=hgmQaE9nnAzCBYDQcIezzw%3D%3D; Arrow Part Number: 01020071Z; Arrow Price/Stock: https://www.arrow.com/en/products/01020071z/littelfuse?region=europe
footprint 01020071Z
pins: 1, 2

## 01020071Z_1
designator F?, comment 01020071Z
FUSE HOLDER; Manufacturer_Name: LITTELFUSE; Datasheet Link: http://www.littelfuse.com/~/media/electronics/datasheets/fuse_clips/littelfuse_fuse_clip_102_122_datasheet.pdf.pdf; Manufacturer_Part_Number: 01020071Z; Mouser Part Number: 576-01020071Z; Mouser Price/Stock: https://www.mouser.co.uk/ProductDetail/Littelfuse/01020071Z?qs=hgmQaE9nnAzCBYDQcIezzw%3D%3D; Arrow Part Number: 01020071Z; Arrow Price/Stock: https://www.arrow.com/en/products/01020071z/littelfuse?region=europe
footprint 01020071Z_1 (Footprint not found)
pins: 1

## 1734324-7
designator J?
CONN MOD JACK 8P8C R/A SHIELDED; Manufacturer_Name: TE Connectivity; Datasheet Link: https://www.te.com/commerce/DocumentDelivery/DDEController?Action=showdoc&DocId=Customer+Drawing%7F1734324%7FA6%7Fpdf%7FEnglish%7FENG_CD_1734324_A6.pdf%7F1734324-7; Height: 11.6mm; Manufacturer_Part_Number: 1734324-7; Mouser Part Number: 571-1734324-7; Mouser Price/Stock: https://www.mouser.co.uk/ProductDetail/TE-Connectivity/1734324-7?qs=fzsaQExJLyQDhvGFBX%252BpzQ%3D%3D
footprint 17343247
pins: 1 BI_DA+, 2 BI_DA-, 3 BI_DB+, 4 BI_DC+, 5 BI_DC-, 6 BI_DB-, 7 BI_DD+, 8 BI_DD-, 9 A_YEL, 10 K_YEL, 11 A_GR, 12 K_GR, MH1, MH2
text: YEL; GRN

## 1734577-3
designator J?
CONN MOD JACK 8P8C SHIELDED; Manufacturer_Name: TE Connectivity; Manufacturer_Part_Number: 1734577-3; Datasheet Link: https://www.arrow.com/en/products/1734577-3/te-connectivity; Height: 16.8mm; Mouser Part Number: 571-1734577-3; Mouser Price/Stock: https://www.mouser.co.uk/ProductDetail/TE-Connectivity-AMP/1734577-3?qs=vnwGVgFuQiaEjsPDUHmJkw%3D%3D; Arrow Part Number: 1734577-3; Arrow Price/Stock: https://www.arrow.com/en/products/1734577-3/te-connectivity?region=europe
footprint 17345773
pins: 1, 2, 3, 4, 5, 6, 7, 8, 9 K_GREEN, 10 A_GREEN, 11 K_YELLOW, 12 A_YELLOW, MH1, MH2

## 1747981-1
designator J?
CONN RCPT HDMI 19POS PNL MNT R/A; Manufacturer_Name: TE Connectivity; Manufacturer_Part_Number: 1747981-1; Datasheet Link: https://www.digikey.com/htmldatasheets/production/12378/0/0/1/2-1747981-1.pdf; Height: 6.38mm; Mouser Part Number: 571-1747981-1; Mouser Price/Stock: https://www.mouser.co.uk/ProductDetail/TE-Connectivity/1747981-1?qs=z5WhPA3s7zPU1O1OMn7SIA%3D%3D; Arrow Part Number: 1747981-1; Arrow Price/Stock: https://www.arrow.com/en/products/1747981-1/te-connectivity?utm_currency=USD&region=nac
footprint 17479811
pins: 1, 2, 3, 4, 5, 6, 7, 8, 9, 10, 11, 12, 13, 14, 15, 16, 17, 18, 19, 20 MH1, 21 MH2, 22 MH3, 23 MH4

## 1808190
designator J?
Connector; Manufacturer_Name: Phoenix Contact; Manufacturer_Part_Number: 1808190; Datasheet Link: http://www.phoenixcontact.com/de/produkte/1808190/pdf; Height: 5.1mm; Mouser Part Number: 651-1808190; Mouser Price/Stock: https://www.mouser.co.uk/ProductDetail/Phoenix-Contact/1808190?qs=iCzJi%2FIZBF4FY1JlEg%252BOIw%3D%3D; Arrow Part Number: 1808190; Arrow Price/Stock: https://www.arrow.com/en/products/1808190/phoenix-contact
footprint 1808190
pins: 1, 2, 3, 4

## 1861044
designator J?, comment MSTBO-2,5/2-G1R
TERM BLOCK HDR 2POS 5MM; Manufacturer_Name: Phoenix Contact; Manufacturer_Part_Number: 1861044; Datasheet Link: http://www.phoenixcontact.net/product/1861044; Height: 10.1mm; Mouser Part Number: 651-1861044; Mouser Price/Stock: https://www.mouser.co.uk/ProductDetail/Phoenix-Contact/1861044?qs=z6e26OirEkzXBHKIPfSL6g%3D%3D
footprint 1861044
pins: 1, 2
text: КОНТ; ЦЕПЬ

## 1861057
designator J?, comment MSTBO-2,5/2-G1L
TERM BLOCK HDR 2POS 5MM; Manufacturer_Name: Phoenix Contact; Manufacturer_Part_Number: 1861057; Datasheet Link: http://www.phoenixcontact.net/product/1861057; Height: 10.1mm; Mouser Part Number: 651-1861057; Mouser Price/Stock: https://www.mouser.co.uk/ProductDetail/Phoenix-Contact/1861057?qs=z6e26OirEkzeL3D2IcZZRQ%3D%3D
footprint 1861057
pins: 1, 2
text: КОНТ; ЦЕПЬ

## 2199119-3
designator J?
CONN M.2 FMALE 67POS 0.020 GOLD; Manufacturer_Name: TE Connectivity; Manufacturer_Part_Number: 2199119-3; Datasheet Link: https://www.te.com/commerce/DocumentDelivery/DDEController?Action=srchrtrv&DocNm=1-1773706-1NGFF_QRG-SC&DocType=Data%20Sheet&DocLang=Chinese (Simplified)&PartCntxt=2199119-3&DocFormat=pdf; Height: 3.2mm; Mouser Part Number: 571-2199119-3; Mouser Price/Stock: https://www.mouser.co.uk/ProductDetail/TE-Connectivity/2199119-3?qs=EQCnRgr4b6Gv3vL0NE37dw%3D%3D; Arrow Part Number: 2199119-3; Arrow Price/Stock: https://www.arrow.com/en/products/2199119-3/te-connectivity?utm_currency=USD&region=nac
footprint 21991193
pins: 1, 2, 3, 4, 5, 6, 7, 8, 9, 10, 11, 20, 21, 22, 23, 24, 25, 26, 27, 28, 29, 30, 31, 32, 33, 34, 35, 36, 37, 38, 39, 40, 41, 42, 43, 44, 45, 46, 47, 48, 49, 50, 51, 52, 53, 54, 55, 56, 57, 58, 59, 60, 61, 62, 63, 64, 65, 66, 67, 68, 69, 70, 71, 72, 73, 74, 75, MP1, MP2

## 2301843-1
designator J?
CONN D-SUB PLUG 9POS R/A SOLDER; Manufacturer_Name: TE Connectivity; Manufacturer_Part_Number: 2301843-1; Datasheet Link: https://componentsearchengine.com/Datasheets/2/2301843-1.pdf; Height: 13.955mm; Mouser Part Number: 571-2301843-1; Mouser Price/Stock: https://www.mouser.co.uk/ProductDetail/TE-Connectivity-AMP/2301843-1?qs=rrS6PyfT74crws9wAQVNoA%3D%3D; Arrow Part Number: 2301843-1; Arrow Price/Stock: https://www.arrow.com/en/products/2301843-1/te-connectivity?utm_currency=USD&region=europe
footprint 23018431
pins: 1, 2, 3, 4, 5, 6, 7, 8, 9, MH1, MH2

## 5120521-1
designator J?
CONN RCPT 64POS SMD GOLD; Manufacturer_Name: TE Connectivity; Manufacturer_Part_Number: 5120521-1; Datasheet Link: https://www.te.com/commerce/DocumentDelivery/DDEController?Action=srchrtrv&DocNm=5120521&DocType=Customer+Drawing&DocLang=English; Height: 5.4mm; Mouser Part Number: 571-5120521-1; Mouser Price/Stock: https://www.mouser.co.uk/ProductDetail/TE-Connectivity/5120521-1?qs=3kCnFMRqPtHBxS81APTfMQ%3D%3D; Arrow Part Number: 5120521-1; Arrow Price/Stock: https://www.arrow.com/en/products/5120521-1/te-connectivity?region=nac
footprint 51205211
pins: 1, 2, 3, 4, 5, 6, 7, 8, 9, 10, 11, 12, 13, 14, 15, 16, 17, 18, 19, 20, 21, 22, 23, 24, 25, 26, 27, 28, 29, 30, 31, 32, 33, 34, 35, 36, 37, 38, 39, 40, 41, 42, 43, 44, 45, 46, 47, 48, 49, 50, 51, 52, 53, 54, 55, 56, 57, 58, 59, 60, 61, 62, 63, 64

## 5146229-1
designator J?
CONN PCMCIA CARD SMD; Manufacturer_Name: TE Connectivity; Manufacturer_Part_Number: 5146229-1; Datasheet Link: https://media.digikey.com/pdf/Data%20Sheets/Tyco%20Electonics%20AMP%20PDFs/5146229.pdf; Height: 2.83mm
footprint 51462291
pins: 1, 2, 3, 4, 5, 6, 7, 8, 9, 10, 11, 12, 13, 14, 15, 16, 17, 18, 19, 20, 21, 22, 23, 24, 25, 26, 27, 28, 29, 30, 31, 32, 33, 34, 35, 36, 37, 38, 39, 40, 41, 42, 43, 44, 45, 46, 47, 48, 49, 50, 51, 52, 53, 54, 55, 56, 57, 58, 59, 60, 61, 62, 63, 64, 65, 66, 67, 68

## 5520426-4
designator J?
CONN MOD JACK 8P8C R/A UNSHLD; Manufacturer_Name: TE Connectivity; Manufacturer_Part_Number: 5520426-4; Datasheet Link: https://www.te.com/commerce/DocumentDelivery/DDEController?Action=srchrtrv&DocNm=5520426&DocType=Customer+Drawing&DocLang=English; Height: 16.26mm; Mouser Part Number: 571-5520426-4; Mouser Price/Stock: https://www.mouser.co.uk/ProductDetail/TE-Connectivity-AMP/5520426-4?qs=CWN9I2qbSLvAOitCP4VLiA%3D%3D; Arrow Part Number: 5520426-4; Arrow Price/Stock: https://www.arrow.com/en/products/5520426-4/te-connectivity
footprint 55204264
pins: 1, 2, 3, 4, 5, 6, 7, 8

## 5555164-1
designator J?
CONN MOD JACK 8P8C R/A UNSHLD; Manufacturer_Name: TE Connectivity; Manufacturer_Part_Number: 5555164-1; Datasheet Link: https://www.te.com/commerce/DocumentDelivery/DDEController?Action=showdoc&DocId=Customer+Drawing%7F5555164%7FB1%7Fpdf%7FEnglish%7FENG_CD_5555164_B1.pdf%7F5555164-1; Height: 12.7mm; Mouser Part Number: 571-5555164-1; Mouser Price/Stock: https://www.mouser.co.uk/ProductDetail/TE-Connectivity-AMP/5555164-1?qs=BcfjnG7NVaWfeEYSWegYjg%3D%3D; Arrow Part Number: 5555164-1; Arrow Price/Stock: https://www.arrow.com/en/products/5555164-1/te-connectivity?region=europe
footprint 55551641
pins: 1, 2, 3, 4, 5, 6, 7, 8

## 5787686-1
designator J?
CONN D-SUB PLUG 37POS VERT SLDR; Manufacturer_Name: TE Connectivity; Manufacturer_Part_Number: 5787686-1; Datasheet Link: https://www.te.com/commerce/DocumentDelivery/DDEController?Action=srchrtrv&DocNm=82068_AMPLIMITE_Straight_Posted_Conns&DocType=Catalog%20Section&DocLang=English&PartCntxt=5787686-1&DocFormat=pdf; Height: 12.23mm; Mouser Part Number: 571-57876861; Mouser Price/Stock: https://www.mouser.co.uk/ProductDetail/TE-Connectivity/5787686-1?qs=5s7RUw0ui4CwlkygAjW6nA%3D%3D; Arrow Part Number: 5787686-1; Arrow Price/Stock: https://www.arrow.com/en/products/5787686-1/te-connectivity?region=nac
footprint 57876861
pins: 1, 2, 3, 4, 5, 6, 7, 8, 9, 10, 11, 12, 13, 14, 15, 16, 17, 18, 19, 20, 21, 22, 23, 24, 25, 26, 27, 28, 29, 30, 31, 32, 33, 34, 35, 36, 37, MH1, MH2

## 8240136
designator D?
TVS DIODE 3.3VWM 6VC SOT1434; Manufacturer_Name: Wurth Elektronik; Datasheet Link: https://katalog.we-online.com/pbs/datasheet/8240136.pdf; Height: 1mm; Manufacturer_Part_Number: 8240136; Mouser Part Number: 710-8240136; Mouser Price/Stock: https://www.mouser.co.uk/ProductDetail/Wurth-Elektronik/8240136?qs=2kOmHSv6VfRzJgOziAyjDw%3D%3D
footprint 8240136
pins: 1 GND, 2 I/O1, 3 I/O2, 4 VDD

## 10018783-11210TLF
designator J?
CONN PCI EXP FMALE 36POS 0.039; Manufacturer_Name: Amphenol Communications Solutions; Manufacturer_Part_Number: 10018783-11210TLF; Datasheet Link: https://cdn.amphenol-cs.com/media/wysiwyg/files/drawing/10018783.pdf; Height: 11.25mm
footprint 1001878311210TLF
pins: A1, A2, A3, A4, A5, A6, A7, A8, A9, A10, A11, A12, A13, A14, A15, A16, A17, A18, B1, B2, B3, B4, B5, B6, B7, B8, B9, B10, B11, B12, B13, B14, B15, B16, B17, B18

## 10118194-0001LF
designator J?
Connector; Manufacturer_Name: Amphenol Communications Solutions; Manufacturer_Part_Number: 10118194-0001LF; Datasheet Link: https://www.amphenol-cs.com/micro-usb-101181940001lf.html; Height: 3.25mm; Arrow Part Number: 10118194-0001LF; Arrow Price/Stock: https://www.arrow.com/en/products/10118194-0001lf/amphenol-fci?utm_currency=USD&region=nac
footprint 101181940001LF
pins: 1, 2, 3, 4, 5, MH1, MH2, MH3, MH4, MP1, MP2

## 10129378-902001BLF
designator J?
Connector; Manufacturer_Name: Amphenol; Manufacturer_Part_Number: 10129378-902001BLF; Datasheet Link: https://www.mouser.co.uk/datasheet/2/18/10129378-1530218.pdf; Height: 8.43mm; Mouser Part Number: 649-1012937890201BLF; Mouser Price/Stock: https://www.mouser.co.uk/ProductDetail/Amphenol-FCI/10129378-902001BLF?qs=0lQeLiL1qybv6C1q0T3%2FPw%3D%3D; Arrow Part Number: 10129378-902001BLF; Arrow Price/Stock: https://www.arrow.com/en/products/10129378-902001blf/amphenol-fci?region=nac
footprint HDRV2W67P0X254_1X2_508X241X843P
pins: 1, 2

## 20021521-00010T1LF
designator J?
CONN HEADER SMD 10POS 1.27MM; Manufacturer_Name: Amphenol Communications Solutions; Manufacturer_Part_Number: 20021521-00010T1LF; Datasheet Link: https://cdn.amphenol-cs.com/media/wysiwyg/files/drawing/20021521.pdf; Height: 5.4mm; Mouser Part Number: 649-200215210010T1LF; Mouser Price/Stock: https://www.mouser.co.uk/ProductDetail/Amphenol-FCI/20021521-00010T1LF?qs=oJs1R%252BxK6kTFutD5Qb%252BmaQ%3D%3D; Arrow Part Number: 20021521-00010T1LF; Arrow Price/Stock: https://www.arrow.com/en/products/20021521-00010t1lf/amphenol-fci?region=europe
footprint 2002152100010T1LF
pins: 1, 2, 3, 4, 5, 6, 7, 8, 9, 10

## 0039301060
designator J?
Connector; Manufacturer_Name: Molex; Manufacturer_Part_Number: 0039301060; Datasheet Link: https://www.molex.com/pdm_docs/sd/039301060_sd.pdf; Height: 9.6mm; Mouser Part Number: N/A; Mouser Price/Stock: https://www.mouser.co.uk/ProductDetail/Molex/0039301060?qs=PBcRNPEHKsrlE3lazMsSFw%3D%3D; Arrow Part Number: 0039301060; Arrow Price/Stock: https://www.arrow.com/en/products/0039301060/molex?utm_currency=USD&region=europe
footprint 0039301060
pins: 1, 2, 3, 4, 5, 6

## 705430050
designator XP?
CONN HEADER VERT 16POS 2.54MM; Manufacturer_Name: Amphenol; Manufacturer_Part_Number: 908-22106; Datasheet Link: https://www.mouser.co.uk/datasheet/2/18/c908-22106-713765.pdf; Height: 4.5mm; Mouser Part Number: 523-908-22106; Mouser Price/Stock: https://www.mouser.co.uk/ProductDetail/Amphenol-RF/908-22106?qs=LgeqI7%252B1o3WnCXNTH3Bccg%3D%3D; Arrow Part Number: 908-22106; Arrow Price/Stock: https://www.arrow.com/en/products/908-22106/amphenol-rf?region=nac
footprint 705430050
pins: 1, 2, 3, 4, 5, 6, 7, 8, 9, 10, 11, 12, 13, 14, 15, 16

## 9774040243R
designator MNT?  (value not drawn)
ROUND STANDOFF M2X0.4 STEEL 4MM; Manufacturer: Wurth; Value: 9774040243R; Part Number: 9774040243R
pins: 1

## 46212000000
designator F?
FUSE BRD MT 2A 350VAC 350VDC SMD; Manufacturer_Name: LITTELFUSE; Manufacturer_Part_Number: 46212000000; Datasheet Link: https://www.arrow.com/en/products/46212000000/littelfuse; Height: 4.7mm; Mouser Part Number: 576-46212000000; Mouser Price/Stock: https://www.mouser.com/Search/Refine.aspx?Keyword=576-46212000000; Arrow Part Number: 46212000000; Arrow Price/Stock: https://www.arrow.com/en/products/46212000000/littelfuse?region=nac
footprint FUSC10545X470N
pins: 1, 2

## 61002021121
designator J?
CONN HEADER SMD 20POS 2.54MM; Manufacturer_Name: Wurth Elektronik; Manufacturer_Part_Number: 61002021121; Datasheet Link: http://katalog.we-online.de/em/datasheet/6100xx21121.pdf; Mouser Part Number: 710-61002021121; Mouser Price/Stock: https://www.mouser.co.uk/ProductDetail/Wurth-Elektronik/61002021121?qs=PhR8RmCirEb8NKw1QtRC3A%3D%3D
footprint HUSSP20W79P254_2X10_2540X508X889P
pins: 1, 2, 3, 4, 5, 6, 7, 8, 9, 10, 11, 12, 13, 14, 15, 16, 17, 18, 19, 20

## 68610414422
designator J?
CONN FFC FPC BOTTOM 4POS 1MM R/A; Manufacturer_Name: Wurth Elektronik; Manufacturer_Part_Number: 68610414422; Datasheet Link: https://www.we-online.com/components/products/datasheet/68610414422.pdf; Height: 3.15mm; Mouser Part Number: 710-68610414422; Mouser Price/Stock: https://www.mouser.co.uk/ProductDetail/Wurth-Elektronik/68610414422?qs=RiQAlOPxzzCJiSM9hOfHbA%3D%3D
footprint 68610414422
pins: 1, 2, 3, 4, MP1, MP2

## 68610814122
designator J?
CONN FPC TOP 8POS 1MM R/A; Manufacturer_Name: Wurth Elektronik; Manufacturer_Part_Number: 68610814122; Datasheet Link: https://componentsearchengine.com/Datasheets/2/68610814122.pdf; Height: 4.11mm; Mouser Part Number: 710-68610814122; Mouser Price/Stock: https://www.mouser.co.uk/ProductDetail/Wurth-Elektronik/68610814122?qs=ZtY9WdtwX56NYUVsnEP%2Ftw%3D%3D
footprint 68610814122
pins: 1, 2, 3, 4, 5, 6, 7, 8, MP1, MP2

## 696108003002
designator F?
FUSEHOLDER BLOCKS - PCB - CLIP C; Manufacturer_Name: Wurth Elektronik; Manufacturer_Part_Number: 696108003002; Datasheet Link: http://katalog.we-online.de/em/datasheet/696108003002.pdf; Mouser Part Number: 710-696108003002; Mouser Price/Stock: https://www.mouser.co.uk/ProductDetail/Wurth-Elektronik/696108003002?qs=%252BEew9%252B0nqrCCQeoUrFurBg%3D%3D
footprint WR-FSH_THT_2
pins: 1, 2

## A70-112-331N126
designator J?
Connector; Manufacturer_Name: EDAC; Manufacturer_Part_Number: A70-112-331N126; Datasheet Link: https://www.mouser.in/ProductDetail/EDAC/A70-112-331N126?qs=3vio67wFuYr%2FLpvF4Nvj2w%3D%3D; Height: 13.65mm
footprint A70112331N126
pins: MH1, MH2, P1, P2, P3, P4, P5, P6, P7, P8, P9, P10, P11, P12, P13, P14, P15 GREEN_CATHODE, P16 GREEN_ANODE, P17 YELLOW_CATHODE, P18 YELLOW_ANODE
text: TRD0+; TRD0-; TRD1+; TRD1-; CT; TRD2+; TRD2-; TRD3+; TRD3-; VC1; VC2; VC3; VC4; LEDG_A; GREEN; LEDG_K; LEDY_A; YELLOW; LEDY_K; SHLD

## A2412S-1WR2
designator PS?
ISOLATED MODULE DC DC CONVERTER; Manufacturer_Name: Mornsun Power; Manufacturer_Part_Number: A2412S-1WR2; Datasheet Link: https://www.mornsun-power.com/html/pdf/A1205S-1WR2.html; Height: 9.55mm
footprint A2412S1WR2
pins: 1 VIN, 2 GND, 4 -VO, 5 0V, 6 +VO

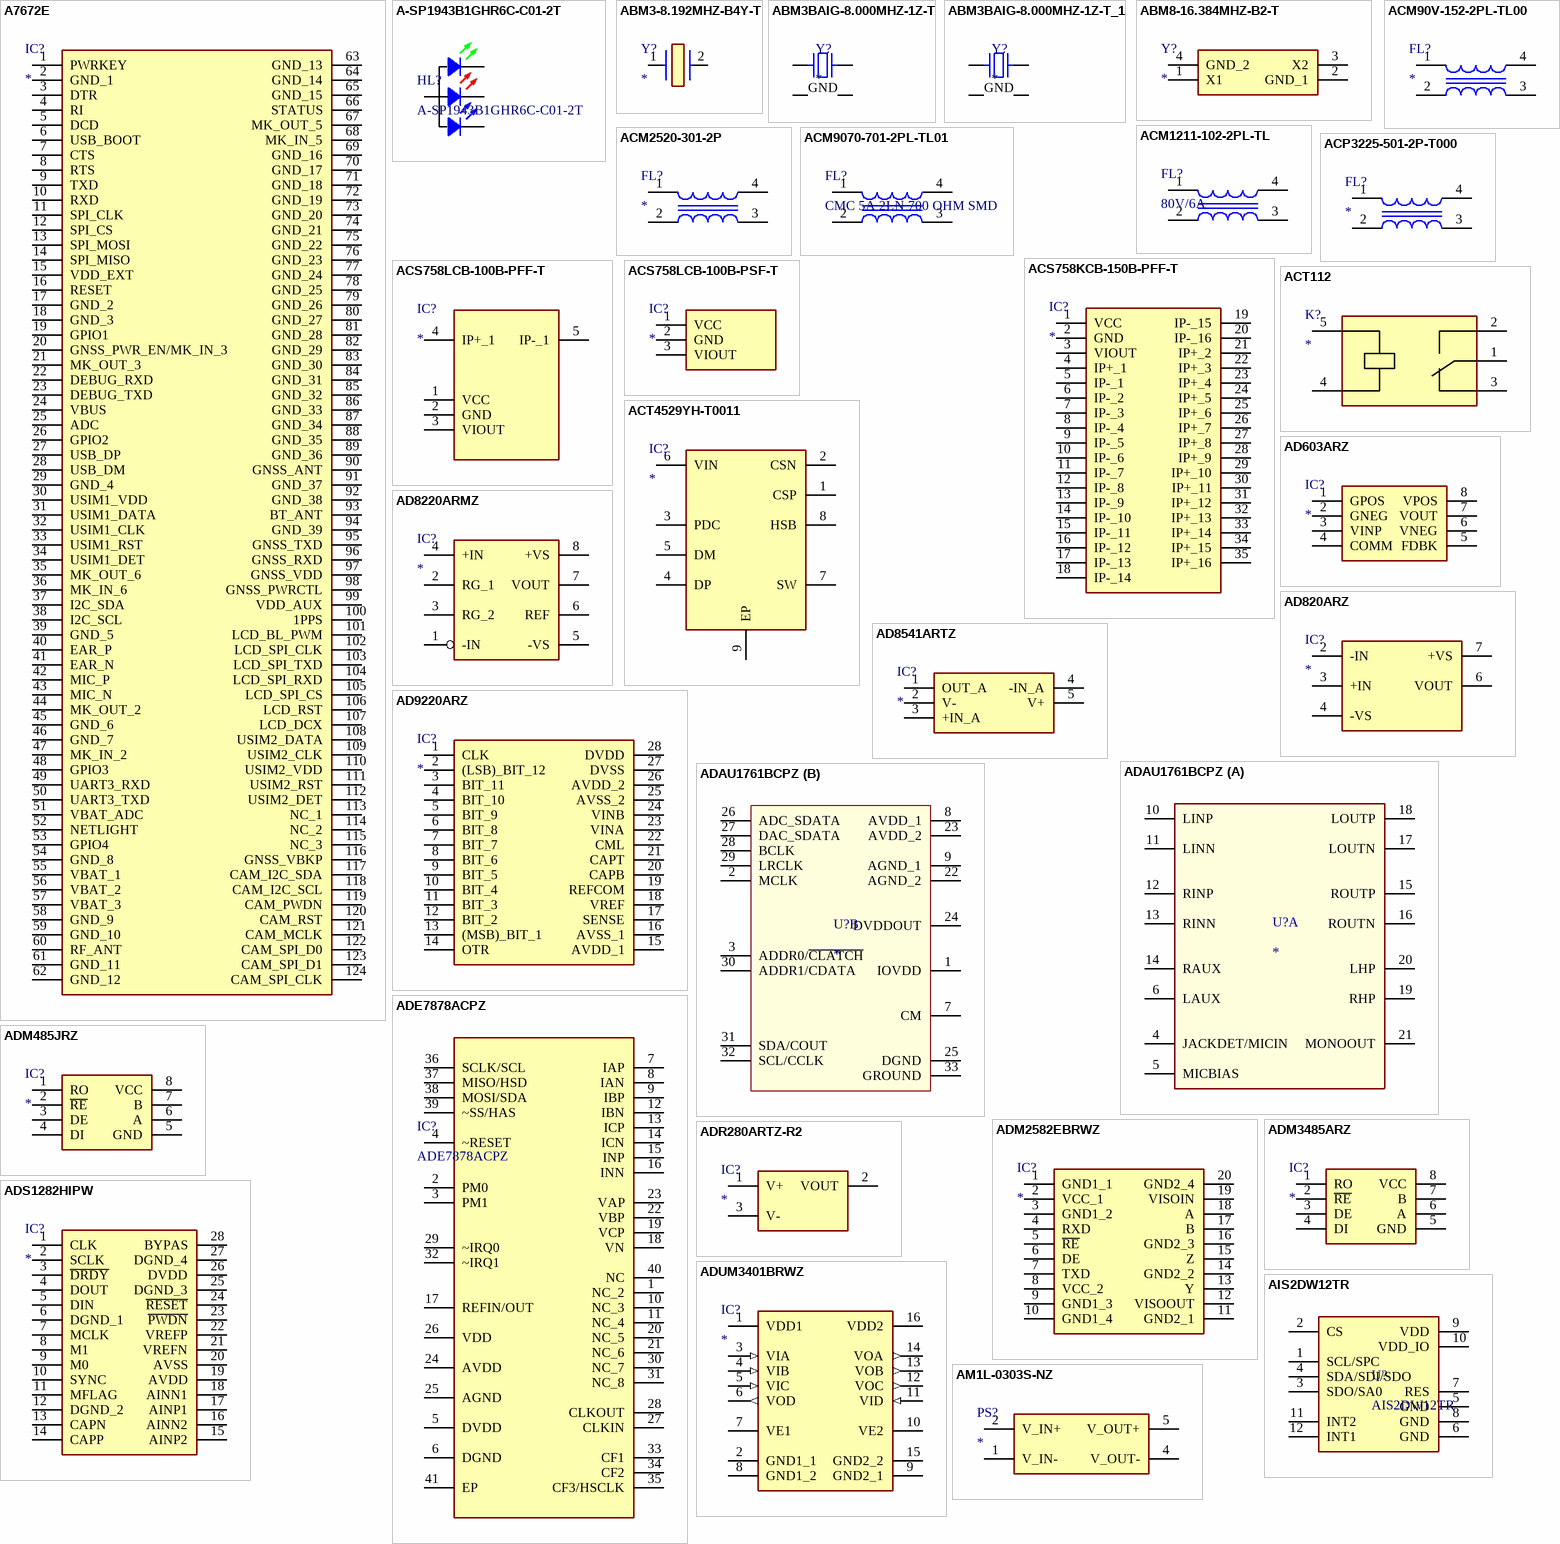
[diagram p7: symbols A7672E to AM1L-0303S-NZ]

## A7672E
designator IC?
Integrated Circuit; Manufacturer_Name: SIMCOM; Manufacturer_Part_Number: A7672E; Datasheet Link: https://g.componentsearchengine.com/Datasheets/0/18620297.pdf; Height: 2.6mm
footprint A7672E
pins: 1 PWRKEY, 2 GND_1, 3 DTR, 4 RI, 5 DCD, 6 USB_BOOT, 7 CTS, 8 RTS, 9 TXD, 10 RXD, 11 SPI_CLK, 12 SPI_CS, 13 SPI_MOSI, 14 SPI_MISO, 15 VDD_EXT, 16 RESET, 17 GND_2, 18 GND_3, 19 GPIO1, 20 GNSS_PWR_EN/MK_IN_3, 21 MK_OUT_3, 22 DEBUG_RXD, 23 DEBUG_TXD, 24 VBUS, 25 ADC, 26 GPIO2, 27 USB_DP, 28 USB_DM, 29 GND_4, 30 USIM1_VDD, 31 USIM1_DATA, 32 USIM1_CLK, 33 USIM1_RST, 34 USIM1_DET, 35 MK_OUT_6, 36 MK_IN_6, 37 I2C_SDA, 38 I2C_SCL, 39 GND_5, 40 EAR_P, 41 EAR_N, 42 MIC_P, 43 MIC_N, 44 MK_OUT_2, 45 GND_6, 46 GND_7, 47 MK_IN_2, 48 GPIO3, 49 UART3_RXD, 50 UART3_TXD, 51 VBAT_ADC, 52 NETLIGHT, 53 GPIO4, 54 GND_8, 55 VBAT_1, 56 VBAT_2, 57 VBAT_3, 58 GND_9, 59 GND_10, 60 RF_ANT, 61 GND_11, 62 GND_12, 63 GND_13, 64 GND_14, 65 GND_15, 66 STATUS, 67 MK_OUT_5, 68 MK_IN_5, 69 GND_16, 70 GND_17, 71 GND_18, 72 GND_19, 73 GND_20, 74 GND_21, 75 GND_22, 76 GND_23, 77 GND_24, 78 GND_25, 79 GND_26, 80 GND_27, 81 GND_28, 82 GND_29, 83 GND_30, 84 GND_31, 85 GND_32, 86 GND_33, 87 GND_34, 88 GND_35, 89 GND_36, 90 GNSS_ANT, 91 GND_37, 92 GND_38, 93 BT_ANT, 94 GND_39, 95 GNSS_TXD, 96 GNSS_RXD, 97 GNSS_VDD, 98 GNSS_PWRCTL, 99 VDD_AUX, 100 1PPS, 101 LCD_BL_PWM, 102 LCD_SPI_CLK, 103 LCD_SPI_TXD, 104 LCD_SPI_RXD, 105 LCD_SPI_CS, 106 LCD_RST, 107 LCD_DCX, 108 USIM2_DATA, 109 USIM2_CLK, 110 USIM2_VDD, 111 USIM2_RST, 112 USIM2_DET, 113 NC_1, 114 NC_2, 115 NC_3, 116 GNSS_VBKP, 117 CAM_I2C_SDA, 118 CAM_I2C_SCL, 119 CAM_PWDN, 120 CAM_RST, 121 CAM_MCLK, 122 CAM_SPI_D0, 123 CAM_SPI_D1, 124 CAM_SPI_CLK

## A-SP1943B1GHR6C-C01-2T
designator HL?
LED, RGB, CA, 1.6*1.5mm; Manufacturer_Name: AMICC; Datasheet Link: https://static.chipdip.ru/lib/736/DOC002736052.pdf; Height: 1.1mm; Manufacturer_Part_Number: A-SP1943B1GHR6C-C01-2T
footprint LED1615_RGB (Footprint not found)
pins: 1 C_G, 2 C_R, 3 A, 4 C_R

## ABM3-8.192MHZ-B4Y-T
designator Y?
CRYSTAL 8.1920MHZ 18PF SMD; Manufacturer_Name: ABRACON; Manufacturer_Part_Number: ABM3-8.192MHZ-B4Y-T; Datasheet Link: https://abracon.com/Resonators/abm3.pdf; Height: 1.3mm; Mouser Part Number: 815-ABM38192B4YT; Mouser Price/Stock: https://www.mouser.co.uk/ProductDetail/ABRACON/ABM3-8.192MHZ-B4Y-T?qs=%252BlF%252B75lapNIF%2FQRxtCACMg%3D%3D; Arrow Part Number: ABM3-8.192MHZ-B4Y-T; Arrow Price/Stock: https://www.arrow.com/en/products/abm3-8.192mhz-b4y-t/abracon
footprint ABM3
pins: 1, 2

## ABM3BAIG-8.000MHZ-1Z-T
designator Y?
CRYSTAL 8.0000MHZ 18PF SMD; Manufacturer_Name: ABRACON; Manufacturer_Part_Number: ABM3BAIG-8.000MHZ-1Z-T; Datasheet Link: https://abracon.com/AIGcrystals/ABM3BAIG.pdf; Height: 0.9mm; Mouser Part Number: 815-M3BAIG-8-1ZT; Mouser Price/Stock: https://www.mouser.co.uk/ProductDetail/ABRACON/ABM3BAIG-8.000MHZ-1Z-T?qs=uwxL4vQweFMtl1NAFNP1Qg%3D%3D; Arrow Part Number: ABM3BAIG-8.000MHZ-1Z-T; Arrow Price/Stock: https://www.arrow.com/en/products/abm3baig-8.000mhz-1z-t/abracon?region=nac
footprint ABM3BAIG
pins: 1, 2 GND, 3, 4 GND

## ABM3BAIG-8.000MHZ-1Z-T_1
designator Y?
Crystal or Oscillator; Manufacturer_Name: ABRACON; Manufacturer_Part_Number: ABM3BAIG-8.000MHZ-1Z-T; Datasheet Link: https://abracon.com/AIGcrystals/ABM3BAIG.pdf; Height: 0.9mm; Mouser Part Number: 815-M3BAIG-8-1ZT; Mouser Price/Stock: https://www.mouser.co.uk/ProductDetail/ABRACON/ABM3BAIG-8.000MHZ-1Z-T?qs=uwxL4vQweFMtl1NAFNP1Qg%3D%3D; Arrow Part Number: ABM3BAIG-8.000MHZ-1Z-T; Arrow Price/Stock: https://www.arrow.com/en/products/abm3baig-8.000mhz-1z-t/abracon?region=nac
footprint ABM3BAIG
pins: 1, 2 GND, 3, 4 GND